# EAGLE library part 65816 (library Custom)
WDC's 16 bits successor of the 6502
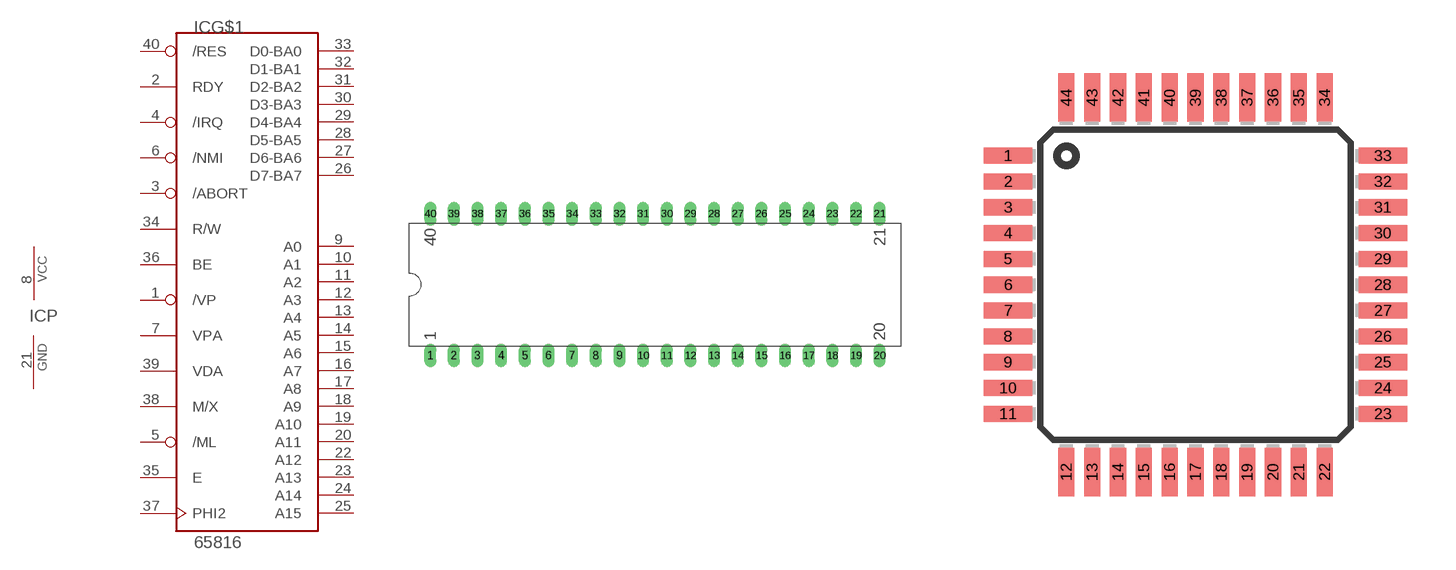
[diagram p22: symbol with the pads of DIP40; footprints DIP40, TQFP44]

Designator prefix IC; gates G$1=65816 P=PWRN

## 65816DIP  [DIP40]
1  G$1:/VP  out
2  G$1:RDY  in
3  G$1:/ABORT  in
4  G$1:/IRQ  in
5  G$1:/ML  out
6  G$1:/NMI  in
7  G$1:VPA  out
8  P:VCC  pwr
9  G$1:A0  hiz
10  G$1:A1  hiz
11  G$1:A2  hiz
12  G$1:A3  hiz
13  G$1:A4  hiz
14  G$1:A5  hiz
15  G$1:A6  hiz
16  G$1:A7  hiz
17  G$1:A8  hiz
18  G$1:A9  hiz
19  G$1:A10  hiz
20  G$1:A11  hiz
21  P:GND  pwr
22  G$1:A12  hiz
23  G$1:A13  hiz
24  G$1:A14  hiz
25  G$1:A15  hiz
26  G$1:D7-BA7
27  G$1:D6-BA6
28  G$1:D5-BA5
29  G$1:D4-BA4
30  G$1:D3-BA3
31  G$1:D2-BA2
32  G$1:D1-BA1
33  G$1:D0-BA0
34  G$1:R/W  out
35  G$1:E  out
36  G$1:BE  in
37  G$1:PHI2  in
38  G$1:M/X  out
39  G$1:VDA  out
40  G$1:/RES  in

## 65816  [TQFP44]
1  G$1:/NMI  in
2  G$1:VPA  out
3  P:VCC  pwr
4  G$1:A0  hiz
5  G$1:A1  hiz
7  G$1:A2  hiz
8  G$1:A3  hiz
9  G$1:A4  hiz
10  G$1:A5  hiz
11  G$1:A6  hiz
12  G$1:A7  hiz
13  G$1:A8  hiz
14  G$1:A9  hiz
15  G$1:A10  hiz
16  G$1:A11  hiz
17  P:GND  pwr
19  G$1:A12  hiz
20  G$1:A13  hiz
21  G$1:A14  hiz
22  G$1:A15  hiz
23  G$1:D7-BA7
24  G$1:D6-BA6
25  G$1:D5-BA5
26  G$1:D4-BA4
27  G$1:D3-BA3
28  G$1:D2-BA2
29  G$1:D1-BA1
30  G$1:D0-BA0
32  G$1:R/W  out
33  G$1:E  out
34  G$1:BE  in
35  G$1:PHI2  in
36  G$1:M/X  out
37  G$1:VDA  out
38  G$1:/RES  in
40  G$1:/VP  out
41  G$1:RDY  in
42  G$1:/ABORT  in
43  G$1:/IRQ  in
44  G$1:/ML  out

## 65816PLCC44  [PLCC44]
1  P:GND  pwr
2  G$1:/VP  out
3  G$1:RDY  in
4  G$1:/ABORT  in
5  G$1:/IRQ  in
6  G$1:/ML  out
7  G$1:/NMI  in
8  G$1:VPA  out
9  P:VCC  pwr
10  G$1:A0  hiz
11  G$1:A1  hiz
13  G$1:A2  hiz
14  G$1:A3  hiz
15  G$1:A4  hiz
16  G$1:A5  hiz
17  G$1:A6  hiz
18  G$1:A7  hiz
19  G$1:A8  hiz
20  G$1:A9  hiz
21  G$1:A10  hiz
22  G$1:A11  hiz
23  P:GND  pwr
24  P:GND  pwr
25  G$1:A12  hiz
26  G$1:A13  hiz
27  G$1:A14  hiz
28  G$1:A15  hiz
29  G$1:D7-BA7
30  G$1:D6-BA6
31  G$1:D5-BA5
32  G$1:D4-BA4
33  G$1:D3-BA3
34  G$1:D2-BA2
35  G$1:D1-BA1
36  G$1:D0-BA0
37  P:VCC  pwr
38  G$1:R/W  out
39  G$1:E  out
40  G$1:BE  in
41  G$1:PHI2  in
42  G$1:M/X  out
43  G$1:VDA  out
44  G$1:/RES  in

## Footprint DIP40 (pad centres in mm)
drill 0.61 pad 1.27 long: 1 -24.13,-7.62; 2 -21.59,-7.62; 3 -19.05,-7.62; 4 -16.51,-7.62; 5 -13.97,-7.62; 6 -11.43,-7.62; 7 -8.89,-7.62; 8 -6.35,-7.62; 9 -3.81,-7.62; 10 -1.27,-7.62; 11 1.27,-7.62; 12 3.81,-7.62; 13 6.35,-7.62; 14 8.89,-7.62; 15 11.43,-7.62; 16 13.97,-7.62; 17 16.51,-7.62; 18 19.05,-7.62; 19 21.59,-7.62; 20 24.13,-7.62; 21 24.13,7.62; 22 21.59,7.62; 23 19.05,7.62; 24 16.51,7.62; 25 13.97,7.62; 26 11.43,7.62; 27 8.89,7.62; 28 6.35,7.62; 29 3.81,7.62; 30 1.27,7.62; 31 -1.27,7.62; 32 -3.81,7.62; 33 -6.35,7.62; 34 -8.89,7.62; 35 -11.43,7.62; 36 -13.97,7.62; 37 -16.51,7.62; 38 -19.05,7.62; 39 -21.59,7.62; 40 -24.13,7.62

## Footprint TQFP44 (pad centres in mm)
smd 1.5 x 0.5: 1 -5.8,4; 2 -5.8,3.2; 3 -5.8,2.4; 4 -5.8,1.6; 5 -5.8,0.8; 6 -5.8,0; 7 -5.8,-0.8; 8 -5.8,-1.6; 9 -5.8,-2.4; 10 -5.8,-3.2; 11 -5.8,-4; 23 5.8,-4; 24 5.8,-3.2; 25 5.8,-2.4; 26 5.8,-1.6; 27 5.8,-0.8; 28 5.8,0; 29 5.8,0.8; 30 5.8,1.6; 31 5.8,2.4; 32 5.8,3.2; 33 5.8,4
smd 0.5 x 1.5: 12 -4,-5.8; 13 -3.2,-5.8; 14 -2.4,-5.8; 15 -1.6,-5.8; 16 -0.8,-5.8; 17 0,-5.8; 18 0.8,-5.8; 19 1.6,-5.8; 20 2.4,-5.8; 21 3.2,-5.8; 22 4,-5.8; 34 4,5.8; 35 3.2,5.8; 36 2.4,5.8; 37 1.6,5.8; 38 0.8,5.8; 39 0,5.8; 40 -0.8,5.8; 41 -1.6,5.8; 42 -2.4,5.8; 43 -3.2,5.8; 44 -4,5.8

## Footprint PLCC44 (pad centres in mm)
smd 0.6 x 2.2: 1 0,8.1; 2 -1.27,8.1; 3 -2.54,8.1; 4 -3.81,8.1; 5 -5.08,8.1; 6 -6.35,8.1; 18 -6.35,-8.1; 19 -5.08,-8.1; 20 -3.81,-8.1; 21 -2.54,-8.1; 22 -1.27,-8.1; 23 0,-8.1; 24 1.27,-8.1; 25 2.54,-8.1; 26 3.81,-8.1; 27 5.08,-8.1; 28 6.35,-8.1; 40 6.35,8.1; 41 5.08,8.1; 42 3.81,8.1; 43 2.54,8.1; 44 1.27,8.1
smd 2.2 x 0.6: 7 -8.1,6.35; 8 -8.1,5.08; 9 -8.1,3.81; 10 -8.1,2.54; 11 -8.1,1.27; 12 -8.1,0; 13 -8.1,-1.27; 14 -8.1,-2.54; 15 -8.1,-3.81; 16 -8.1,-5.08; 17 -8.1,-6.35; 29 8.1,-6.35; 30 8.1,-5.08; 31 8.1,-3.81; 32 8.1,-2.54; 33 8.1,-1.27; 34 8.1,0; 35 8.1,1.27; 36 8.1,2.54; 37 8.1,3.81; 38 8.1,5.08; 39 8.1,6.35